# EAGLE library part TMUX1136DGSR (library SamacSys_Parts)
5-V low-leakage-current, 2:1, 2-channel precision analog switch Source: Datasheet <http://www.ti.com/lit/gpn/TMUX1136>
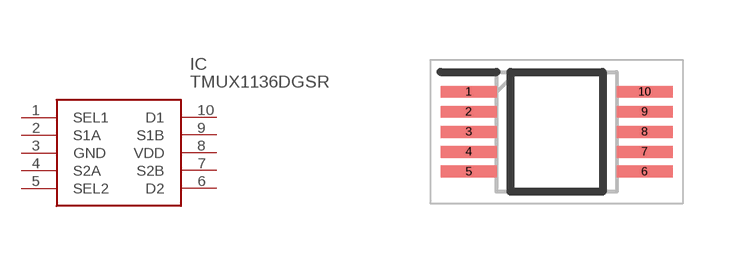
[diagram p43: symbol with the pads of SOP50P490X110-10N; footprint SOP50P490X110-10N]

Designator prefix IC

## TMUX1136DGSR (DESCRIPTION: 5-V low-leakage-current, 2:1, 2-channel precision analog switch; HEIGHT: 1.1mm; MANUFACTURER_NAME: Texas Instruments; MANUFACTURER_PART_NUMBER: TMUX1136DGSR; MOUSER_PART_NUMBER: 595-TMUX1136DGSR; MOUSER_PRICE-STOCK: https://www.mouser.co.uk/ProductDetail/Texas-Instruments/TMUX1136DGSR?qs=mAH9sUMRCtsFZRsOA8u55Q%3D%3D)  [SOP50P490X110-10N]
1  SEL1
2  S1A
3  GND
4  S2A
5  SEL2
6  D2
7  S2B
8  VDD
9  S1B
10  D1

## Footprint SOP50P490X110-10N (pad centres in mm)
DGS (S-PDSO-G10)
smd 1.4 x 0.3: 1 -2.2,1; 2 -2.2,0.5; 3 -2.2,0; 4 -2.2,-0.5; 5 -2.2,-1; 6 2.2,-1; 7 2.2,-0.5; 8 2.2,0; 9 2.2,0.5; 10 2.2,1